# Altium footprint library FlatPack-10_MSOP-8.PcbLib: 1 footprints
Each footprint in its own frame and in the unit in brackets; x right, y up, seen from the top. Pads: shape width x height; smd on the part's side, far side on the other; paste and mask are expansions set on the pad; w line width, h text height; cw(c..) or ccw(c..) is an arc to the next point about the centre after c.
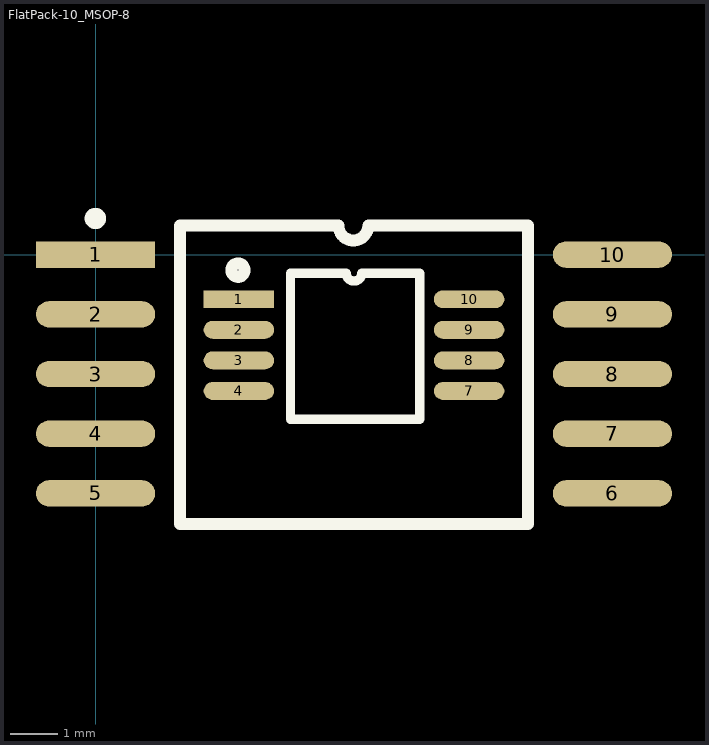
[diagram p0: the footprint, top view; thin cyan lines are the x and y axes]

## FlatPack-10_MSOP-8 [mm]
pads (18):
  rect 2.54x0.559 smd: 1(0,0)
  rect 1.5x0.38 smd: 1(3.05,-0.95)
  oval 2.54x0.559 smd: 2(0,-1.27) 3(0,-2.54) 4(0,-3.81) 5(0,-5.08) 6(11,-5.08) 7(11,-3.81) 8(11,-2.54) 9(11,-1.27) 10(11,0)
  oval 1.5x0.38 smd: 2(3.05,-1.6) 3(3.05,-2.25) 4(3.05,-2.9) 7(7.95,-2.9) 8(7.95,-2.25) 9(7.95,-1.6) 10(7.95,-0.95)
Top Overlay:
  circle w0.254: c-0.003,0.77 r0.1
  circle w0.254: c3.031,-0.331 r0.141
  lines w0.2: 4.15,-3.5 6.9,-3.5 6.9,-0.4 5.662,-0.4 cw(c5.5,-0.4) 5.338,-0.4 4.15,-0.4 4.15,-3.5
  lines w0.254: 1.8,-5.731 1.8,0.619 5.169,0.619 ccw(c5.486,0.619) 5.804,0.619 9.2,0.619 9.2,-5.731 1.8,-5.731
3D body "FlatPack-10.step": height 2, standoff -0.12, extent 0.148,-5.8 10.852,0.7